# Altium schematic symbol library PCB_ANT_SE.SchLib: 1 symbol
Pins are listed as number, name and electrical type; pins without a type are passive.

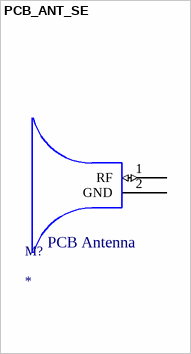
[diagram p0: symbol PCB_ANT_SE]

## PCB_ANT_SE
designator M?
pins: 1 RF (io), 2 GND (power)
text: PCB Antenna